# Altium footprint library Sensors.PcbLib: 2 footprints
Each footprint in its own frame and in the unit in brackets; x right, y up, seen from the top. Pads: shape width x height; smd on the part's side, far side on the other; paste and mask are expansions set on the pad; w line width, h text height; cw(c..) or ccw(c..) is an arc to the next point about the centre after c.
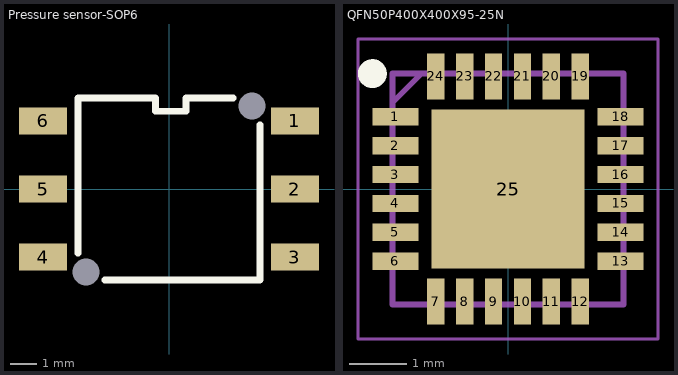
[diagram p0: the footprints below, top view; thin cyan lines are the x and y axes]

## Pressure sensor-SOP6 [mm] "MPS20N0040D-S, XGZP160"
pads (8):
  rect 0x0 hole 1 square unplated: 0(-3.1,-3.1) 0(3.1,3.1)
  rect 1.8x1 smd: 1(4.7,2.54) 2(4.7,0) 3(4.7,-2.54) 4(-4.7,-2.54) 5(-4.7,0) 6(-4.7,2.54)
Top Overlay:
  lines w0.254: -3.4,-2.4 -3.4,3.4 -0.508,3.4 -0.508,2.9 0.635,2.9 0.635,3.4 2.4,3.4 ; -2.4,-3.4 3.4,-3.4 3.4,2.4
3D body "User Library-XFGM-6-1.step": height 9.6, standoff 0, extent -5.723,-4 5.722,4

## QFN50P400X400X95-25N [mm]
pads (25):
  rect 0.8x0.3 smd: 1(-1.95,1.25) 2(-1.95,0.75) 3(-1.95,0.25) 4(-1.95,-0.25) 5(-1.95,-0.75) 6(-1.95,-1.25) 13(1.95,-1.25) 14(1.95,-0.75) 15(1.95,-0.25) 16(1.95,0.25) 17(1.95,0.75) 18(1.95,1.25)
  rect 0.3x0.8 smd: 7(-1.25,-1.95) 8(-0.75,-1.95) 9(-0.25,-1.95) 10(0.25,-1.95) 11(0.75,-1.95) 12(1.25,-1.95) 19(1.25,1.95) 20(0.75,1.95) 21(0.25,1.95) 22(-0.25,1.95) 23(-0.75,1.95) 24(-1.25,1.95)
  rect 2.65x2.75 smd: 25(0,0)
Top Overlay:
  circle w0.25: c-2.35,2 r0.125
Mechanical 15:
  lines w0.1: -2,1.5 -1.5,2 ; -2,-2 -2,2 2,2 2,-2 -2,-2
Mechanical 20:
  lines w0.05: -2.6,-2.6 -2.6,2.6 2.6,2.6 2.6,-2.6 -2.6,-2.6
3D body "MPU-6050.stp": height 0.95, standoff 0, extent -2.05,-2.05 2.05,2.05